# Altium schematic symbol library Mounting Hole.SchLib: 1 symbol
Pins are listed as number, name and electrical type; pins without a type are passive.

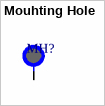
[diagram p0: symbol Mouhting Hole]

## Mouhting Hole
designator MH?, comment Mounting Hole  (value not drawn)
footprint Mounting Hole
pins: 1